# Altium schematic symbol library Microchip.SchLib: 2 symbols
Pins are listed as number, name and electrical type; pins without a type are passive.

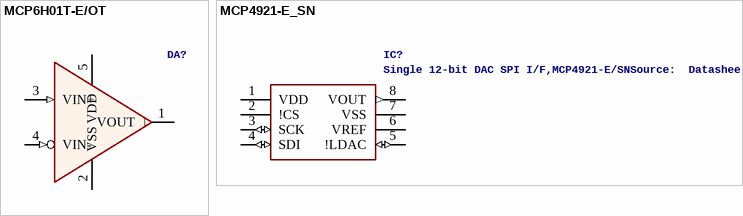
[diagram p0: symbols MCP6H01T-E/OT to MCP4921-E_SN]

## MCP6H01T-E/OT
designator DA?
Операционный усилитель, O/P с полным размахом, 1 Усилитель, 1.2 МГц, 0.8 В/мкс; Manufacturer_Name: Microchip; Manufacturer_Part_Number: MCP6H01T-E/OT; GateName_1: G$1; SymbolName_1: MCP6H01T-E_OT; LibraryName: MCP6H01T-E_OT; DeviceSetName: MCP6H01T-E_OT; Package: SOT95P270X145-5N; Mouser_Part_Number: 579-MCP6H01T-E/OT; Mouser_Price-Stock: https://www.mouser.com/Search/Refine.aspx?Keyword=579-MCP6H01T-E%2FOT; Height: 1.45mm; ComponentLink1Description: DS; ComponentLink1URL: https://ru.mouser.com/datasheet/2/268/22243D-71458.pdf
footprint SOT23-5_N (SOT23, 6-Leads, Body 2.9x1.6mm, Pitch 0.95mm, Lead Span 2.7mm, IPC Medium Density)
pins: 1 VOUT (out), 2 VSS (power), 3 VIN+ (in), 4 VIN- (in), 5 VDD (power)

## MCP4921-E_SN
designator IC?, comment Single 12-bit DAC SPI I/F,MCP4921-E/SNSource:  Datasheet
Manufacturer_Name: Microchip; GateName_1: G$1; SymbolName_1: MCP4921-E_SN; LibraryName: MCP4921-E_SN; DeviceSetName: MCP4921-E_SN; Package: SOIC127P600X175-8N; Mouser_Part_Number: 579-MCP4921-E/SN; Mouser_Price-Stock: https://www.mouser.com/Search/Refine.aspx?Keyword=579-MCP4921-E%2FSN; Manufacturer_Part_Number: MCP4921-E/SN; Height: 1.75mm
footprint SO-8 (SOIC, 8-Leads, Body 4,91x3,90mm, Pitch 1,27mm, IPC Medium Density)
pins: 1 VDD (power), 2 !CS, 3 SCK (io), 4 SDI (io), 5 !LDAC (io), 6 VREF, 7 VSS (power), 8 VOUT (out)